# Altium footprint library Earphone.PcbLib: 37 footprints (part 1 of 3)
Each footprint in its own frame and in the unit in brackets; x right, y up, seen from the top. Pads: shape width x height; smd on the part's side, far side on the other; paste and mask are expansions set on the pad; w line width, h text height; cw(c..) or ccw(c..) is an arc to the next point about the centre after c.
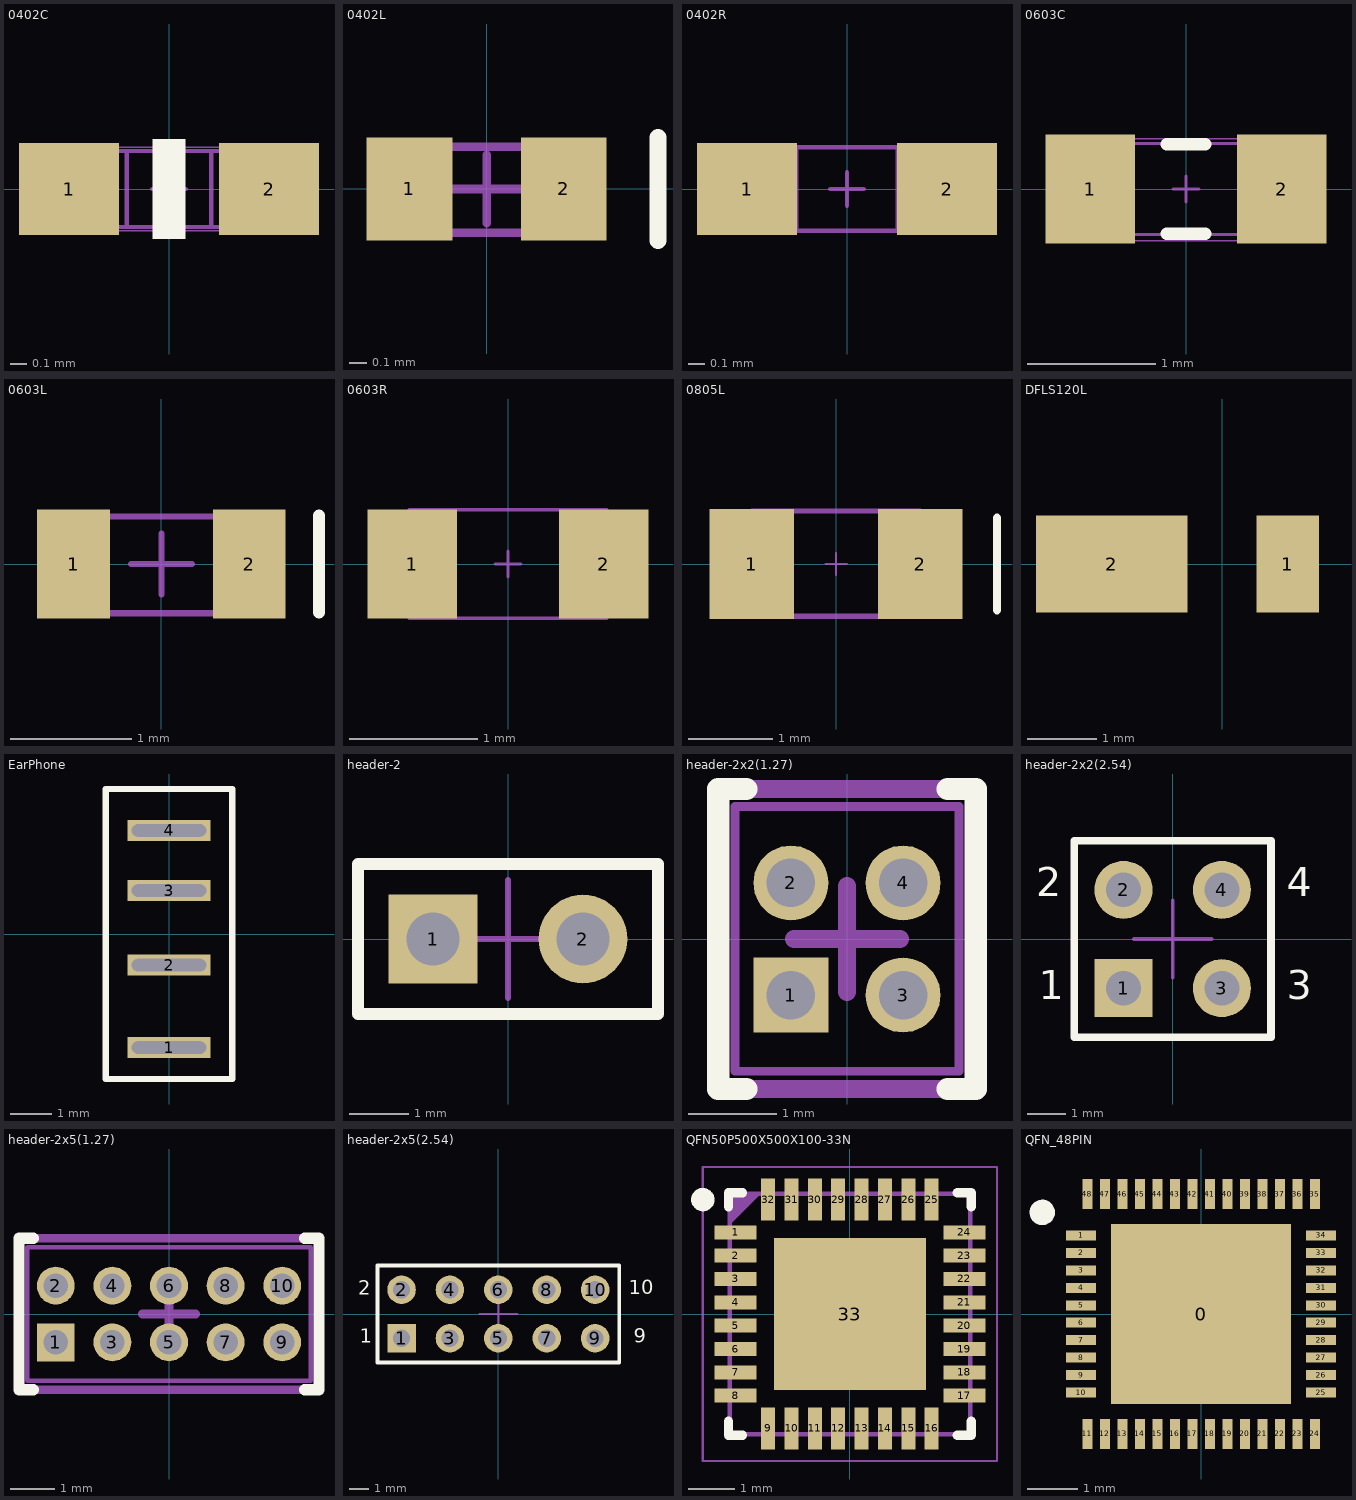
[diagram p0: the footprints below, top view; thin cyan lines are the x and y axes]

## 0402C [mm]
pads (2):
  rect 0.6x0.55 smd: 1(-0.6,0) 2(0.6,0)
Top Overlay:
  rectangle: -0.1,-0.3 0.1,0.3
Mechanical 13:
  lines w0.01: -0.5,-0.25 0.5,-0.25 0.5,0.25 -0.5,0.25 -0.5,-0.25
Mechanical 15:
  lines w0.025: -0.254,-0.229 -0.254,0.229 ; -0.1,0 0.1,0 ; 0.254,-0.229 0.254,0.229 ; -0.5,-0.229 -0.5,0.229 0.5,0.229 0.5,-0.229 -0.5,-0.229
3D body: height 0.5, standoff 0, extent -0.5,-0.25 0.5,0.25

## 0402L [mm]
pads (2):
  rect 0.5x0.6 smd: 1(-0.45,0) 2(0.45,0)
Top Overlay:
  lines w0.1: 1,-0.3 1,0.3
Mechanical 13:
  lines w0.05: -0.505,-0.254 0.505,-0.254 0.505,0.246 -0.505,0.246 -0.505,-0.254
Mechanical 15:
  lines w0.05: -0.2,0 0.2,0 ; 0,-0.2 0,0.2
3D body: height 0.45, standoff 0, extent -0.505,-0.254 0.505,0.246

## 0402R [mm]
pads (2):
  rect 0.6x0.55 smd: 1(-0.6,0) 2(0.6,0)
Mechanical 13:
  lines w0.02: -0.5,-0.25 -0.5,0.25 0.5,0.25 0.5,-0.25 -0.5,-0.25
Mechanical 15:
  lines w0.025: -0.305,-0.25 -0.305,0.25 ; -0.1,0 0.1,0 ; 0,-0.1 0,0.1 ; 0.305,-0.25 0.305,0.25 ; -0.5,-0.25 -0.5,0.25 0.5,0.25 0.5,-0.25 -0.5,-0.25
3D body: height 0.35, standoff 0, extent -0.5,-0.25 0.5,0.25

## 0603C [mm]
pads (2):
  rect 0.7x0.85 smd: 1(-0.75,0) 2(0.75,0)
Top Overlay:
  lines w0.1: -0.15,-0.35 0.15,-0.35 ; -0.15,0.35 0.15,0.35
Mechanical 13:
  lines w0.01: -0.8,-0.406 -0.8,0.394 0.8,0.394 0.8,-0.406 -0.8,-0.406
Mechanical 15:
  lines w0.025: -0.445,-0.356 -0.445,0.356 ; -0.1,0 0.1,0 ; 0,-0.1 0,0.1 ; 0.445,-0.356 0.445,0.356 ; -0.813,-0.356 -0.813,0.356 0.813,0.356 0.813,-0.356 -0.813,-0.356
3D body: height 0.8, standoff 0, extent -0.8,-0.406 0.8,0.394

## 0603L [mm]
pads (2):
  rect 0.6x0.9 smd: 1(-0.725,0) 2(0.725,0)
Top Overlay:
  lines w0.1: 1.3,-0.4 1.3,0.4
Mechanical 13:
  lines w0.05: -0.8,-0.406 0.8,-0.406 0.8,0.394 -0.8,0.394 -0.8,-0.406
Mechanical 15:
  lines w0.05: -0.25,0 0.25,0 ; 0,-0.25 0,0.25
3D body: height 0.6, standoff 0, extent -0.8,-0.406 0.8,0.394

## 0603R [mm]
pads (2):
  rect 0.7x0.85 smd: 1(-0.75,0) 2(0.75,0)
Mechanical 13:
  lines w0.02: -0.775,-0.425 -0.775,0.425 0.775,0.425 0.775,-0.425 -0.775,-0.425
Mechanical 15:
  lines w0.025: -0.584,-0.425 -0.584,0.425 ; -0.1,0 0.1,0 ; 0,-0.1 0,0.1 ; 0.559,-0.425 0.559,0.425 ; -0.775,-0.425 -0.775,0.425 0.775,0.425 0.775,-0.425 -0.775,-0.425
3D body: height 0.46, standoff 0, extent -0.775,-0.425 0.775,0.425

## 0805L [mm]
pads (2):
  rect 1x1.3 smd: 1(-1,0) 2(1,0)
Top Overlay:
  lines w0.1: 1.91,-0.55 1.91,0.55
Mechanical 13:
  lines w0.05: -1,-0.615 1,-0.615 1,0.635 -1,0.635 -1,-0.615
Mechanical 15:
  lines w0.025: -0.127,0 0.127,0 ; 0,-0.127 0,0.127
  lines w0.05: -1,-0.625 -1,0.625 1,0.625 1,-0.625 -1,-0.625
3D body: height 0.9, standoff 0, extent -1,-0.615 1,0.635

## DFLS120L [mm]
pads (2):
  rect 0.9x1.4 smd: 1(0.95,0)
  rect 2.2x1.4 smd: 2(-1.6,0)

## EarPhone [mm]
pads (4):
  rect 2x0.5 hole 0.3 slot 1.8 at 0 deg: 1(0,-2.74) 2(0,-0.75) 3(0,1.05) 4(0,2.5)
Top Overlay:
  lines w0.15: -1.524,-3.5 -1.524,3.5 1.524,3.5 1.524,-3.5 -1.524,-3.5

## header-2 [mm]
pads (2):
  rect 1.5x1.5 hole 0.9: 1(-1.27,0)
  round 1.5 hole 0.9: 2(1.27,0)
Top Overlay:
  lines w0.2: -2.54,-1.27 -2.54,1.27 2.54,1.27 2.54,-1.27 -2.54,-1.27
Mechanical 13:
  lines w0.01: -2.54,-1.245 2.54,-1.245 2.54,1.255 -2.54,1.255 -2.54,-1.245
Mechanical 15:
  lines w0.1: -1,0 1,0 ; 0,-1 0,1
3D body: height 9.01, standoff -2.99, extent -2.54,-1.245 2.54,1.255

## header-2x2(1.27) [mm]
pads (4):
  rect 0.85x0.85 hole 0.55 unplated: 1(-0.635,-0.635)
  round 0.85 hole 0.55 unplated: 2(-0.635,0.635) 3(0.635,-0.635) 4(0.635,0.635)
Top Overlay:
  lines w0.254: -1.143,-1.7 -1.46,-1.7 -1.46,1.7 -1.143,1.7 ; 1.143,-1.7 1.46,-1.7 1.46,1.7 1.143,1.7
Mechanical 13:
  lines w0.1: -1.27,-1.499 -1.27,1.501 ; -1.27,-1.499 1.27,-1.499 ; -1.27,-1.499 -1.27,1.501 ; -1.27,1.501 1.27,1.501 ; 1.27,-1.499 1.27,1.501 ; 1.27,-1.499 1.27,1.501
Mechanical 15:
  lines w0.2: -0.6,0 0.6,0 ; 0,-0.6 0,0.6 ; -1.46,-1.7 -1.46,1.7 1.46,1.7 1.46,-1.7 -1.46,-1.7
3D body: height 3.8, standoff -1.8, extent -1.27,-1.499 1.27,1.501

## header-2x2(2.54) [mm]
pads (4):
  rect 1.5x1.5 hole 0.9: 1(-1.27,-1.27)
  round 1.5 hole 0.9: 2(-1.27,1.27) 3(1.27,-1.27) 4(1.27,1.27)
Top Overlay:
  lines w0.2: -2.54,-2.54 -2.54,2.54 2.54,2.54 2.54,-2.54 -2.54,-2.54
  text "1" at -3.454,-1.803 h1.27
  text "2" at -3.531,0.864 h1.27
  text "4" at 2.946,0.864 h1.27
  text "3" at 2.946,-1.803 h1.27
Mechanical 13:
  lines w0.05: -2.54,-2.54 -2.54,2.54 2.54,2.54 2.54,-2.54 -2.54,-2.54
Mechanical 15:
  lines w0.1: -1,0 1,0 ; 0,-1 0,1
3D body: height 8.51, standoff -2.99, extent -2.54,-2.54 2.54,2.54

## header-2x5(1.27) [mm]
pads (10):
  rect 0.85x0.85 hole 0.55: 1(-2.54,-0.635)
  round 0.85 hole 0.55: 2(-2.54,0.635) 3(-1.27,-0.635) 4(-1.27,0.635) 5(0,-0.635) 6(0,0.635) 7(1.27,-0.635) 8(1.27,0.635) 9(2.54,-0.635) 10(2.54,0.635)
Top Overlay:
  lines w0.254: -3.048,-1.7 -3.365,-1.7 -3.365,1.7 -3.048,1.7 ; 3.048,-1.7 3.365,-1.7 3.365,1.7 3.048,1.7
Mechanical 13:
  lines w0.1: -3.175,-1.499 -3.175,1.501 ; -3.175,-1.499 -3.175,1.501 ; -3.175,-1.499 3.175,-1.499 ; -3.175,1.501 3.175,1.501 ; 3.175,-1.499 3.175,1.501 ; 3.175,-1.499 3.175,1.501
Mechanical 15:
  lines w0.2: -0.6,0 0.6,0 ; 0,-0.6 0,0.6 ; -3.365,-1.7 3.365,-1.7 3.365,1.7 -3.365,1.7 -3.365,-1.7
3D body: height 3.8, standoff -1.8, extent -3.175,-1.499 3.175,1.501

## header-2x5(2.54) [mm]
pads (10):
  rect 1.5x1.5 hole 0.9: 1(-5.08,-1.27)
  round 1.5 hole 0.9: 2(-5.08,1.27) 3(-2.54,-1.27) 4(-2.54,1.27) 5(0,-1.27) 6(0,1.27) 7(2.54,-1.27) 8(2.54,1.27) 9(5.08,-1.27) 10(5.08,1.27)
Top Overlay:
  lines w0.2: -6.35,-2.54 6.35,-2.54 6.35,2.54 -6.35,2.54 -6.35,-2.54
  text "10" at 6.858,0.762 h1.27
  text "9" at 7.112,-1.778 h1.27
  text "1" at -7.264,-1.778 h1.27
  text "2" at -7.366,0.737 h1.27
Mechanical 13:
  lines w0.05: -6.35,-2.54 -6.35,2.54 6.35,2.54 6.35,-2.54 -6.35,-2.54
Mechanical 15:
  lines w0.1: -1,0 1,0 ; 0,-1 0,1
3D body: height 8.51, standoff -2.99, extent -6.35,-2.54 6.35,2.54

## QFN50P500X500X100-33N [mm]
pads (33):
  rect 0.9x0.3 smd: 1(-2.45,1.75) 2(-2.45,1.25) 3(-2.45,0.75) 4(-2.45,0.25) 5(-2.45,-0.25) 6(-2.45,-0.75) 7(-2.45,-1.25) 8(-2.45,-1.75) 17(2.45,-1.75) 18(2.45,-1.25) 19(2.45,-0.75) 20(2.45,-0.25) 21(2.45,0.25) 22(2.45,0.75) 23(2.45,1.25) 24(2.45,1.75)
  rect 0.3x0.9 smd: 9(-1.75,-2.45) 10(-1.25,-2.45) 11(-0.75,-2.45) 12(-0.25,-2.45) 13(0.25,-2.45) 14(0.75,-2.45) 15(1.25,-2.45) 16(1.75,-2.45) 25(1.75,2.45) 26(1.25,2.45) 27(0.75,2.45) 28(0.25,2.45) 29(-0.25,2.45) 30(-0.75,2.45) 31(-1.25,2.45) 32(-1.75,2.45)
  rect 3.25x3.25 smd: 33(0,0)
Top Overlay:
  circle w0.25: c-3.15,2.45 r0.125
  lines w0.2: -2.6,-2.3 -2.6,-2.6 -2.3,-2.6 ; -2.6,2.3 -2.6,2.6 -2.3,2.6 ; 2.3,-2.6 2.6,-2.6 2.6,-2.3 ; 2.3,2.6 2.6,2.6 2.6,2.3
Top Paste:
  region: -0.975,0.975 0.975,0.975 0.975,-0.975 -0.975,-0.975
Mechanical 15:
  lines w0.1: -2.575,1.975 -1.975,2.575 ; -2.575,2.075 -2.075,2.575 ; -2.575,2.175 -2.175,2.575 ; -2.575,2.275 -2.275,2.575 ; -2.575,2.375 -2.375,2.575 ; -2.575,2.475 -2.475,2.575 ; -2.575,-2.575 -2.575,2.575 2.575,2.575 2.575,-2.575 -2.575,-2.575
  text "1" at -0.164,-0.45 h0.76
Mechanical 16:
  lines w0.001: -2.575,-2.575 -2.575,2.575 2.575,2.575 2.575,-2.575 -2.575,-2.575
  lines w0.05: -0.5,0 0.5,0 ; 0,-0.5 0,0.5 ; -3.15,-3.15 -3.15,3.15 3.15,3.15 3.15,-3.15 -3.15,-3.15

## QFN_48PIN [mm]
pads (49):
  rect 3.6x3.6 smd: 0(0,0)
  rect 0.6x0.2 smd: 1(-2.4,1.575) 2(-2.4,1.225) 3(-2.4,0.875) 4(-2.4,0.525) 5(-2.4,0.175) 6(-2.4,-0.175) 7(-2.4,-0.525) 8(-2.4,-0.875) 9(-2.4,-1.225) 10(-2.4,-1.575) 25(2.4,-1.575) 26(2.4,-1.225) 27(2.4,-0.875) 28(2.4,-0.525) 29(2.4,-0.175) 30(2.4,0.175) 31(2.4,0.525) 32(2.4,0.875) 33(2.4,1.225) 34(2.4,1.575)
  rect 0.2x0.6 smd: 11(-2.275,-2.4) 12(-1.925,-2.4) 13(-1.575,-2.4) 14(-1.225,-2.4) 15(-0.875,-2.4) 16(-0.525,-2.4) 17(-0.175,-2.4) 18(0.175,-2.4) 19(0.525,-2.4) 20(0.875,-2.4) 21(1.225,-2.4) 22(1.575,-2.4) 23(1.925,-2.4) 24(2.275,-2.4) 35(2.275,2.4) 36(1.925,2.4) 37(1.575,2.4) 38(1.225,2.4) 39(0.875,2.4) 40(0.525,2.4) 41(0.175,2.4) 42(-0.175,2.4) 43(-0.525,2.4) 44(-0.875,2.4) 45(-1.225,2.4) 46(-1.575,2.4) 47(-1.925,2.4) 48(-2.275,2.4)
Top Overlay:
  circle w0.254: c-3.175,2.032 r0.127